# Altium schematic symbol library ESP_C6_Mini.SchLib: 1 symbol
Pins are listed as number, name and electrical type; pins without a type are passive.

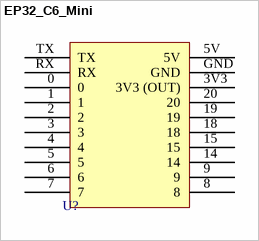
[diagram p0: symbol EP32_C6_Mini]

## EP32_C6_Mini
designator U?  (value not drawn)
footprint ESP_C6_Mini
pins: 0, 1, 2, 3, 3V3 3V3 (OUT), 4, 5, 5V, 6, 7, 8, 9, 14, 15, 18, 19, 20, GND, RX, TX